# EAGLE library part LTC2943CDDPBF (library QUAD_ICs)
Battery fuel-gauge LTC2943
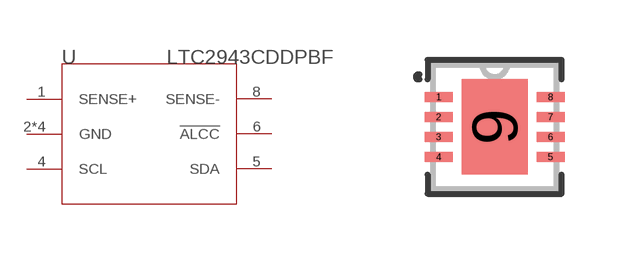
[diagram p11: symbol with the pads of DFN-8_DD_LIT-L; footprint DFN-8_DD_LIT-L]

Designator prefix U

## LTC2943CDDPBFDFN-8_DD_LIT-L (BUILT_BY: EMA_UL_Team; MANUFACTURER_PART_NUMBER: LTC2943CDD#PBF; SOURCELIBRARY: LinearTech_2016-05-13_6; VENDOR: Linear Technology)  [DFN-8_DD_LIT-L]
1  SENSE+  in
2  GND  pwr
3  GND  pwr
4  SCL  in
5  SDA
6  !ALCC
7  GND  pwr
8  SENSE-  in
9  GND  pwr

## Footprint DFN-8_DD_LIT-L (pad centres in mm)
smd 0.7 x 0.25: 1 -1.4,0.75; 2 -1.4,0.25; 3 -1.4,-0.25; 4 -1.4,-0.75; 5 1.4,-0.75; 6 1.4,-0.25; 7 1.4,0.25; 8 1.4,0.75
smd 1.65 x 2.38: 9 0,0